# Altium schematic symbol library Diodes.SchLib: 6 symbols
Pins are listed as number, name and electrical type; pins without a type are passive.

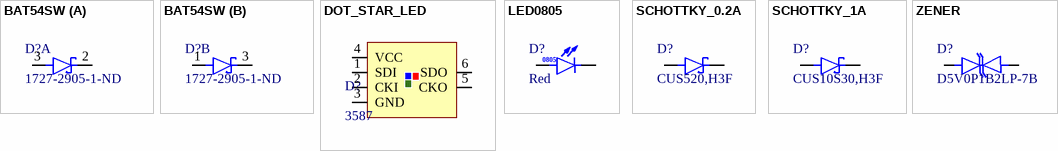
[diagram p0: symbols BAT54SW to ZENER]

## BAT54SW
designator D?, comment 1727-2905-1-ND
Rectifier Diode Schottky 0.2A 5ns Automotive 3-Pin SC-70 T/R; Manufacturer: Nexperia; Manufacturer Part Number: BAT54SW,115; Supplier 1: Digi-Key; RoHS: Yes; Category: Rectifier Diodes; Stock 1: 166801; ComponentLink1URL: http://www.farnell.com/datasheets/1679676.pdf?src-supplier=Farnell; ComponentLink1Description: http://www.farnell.com/datasheets/1679676.pdf?src-supplier=Farnell; ComponentLink2URL: https://assets.nexperia.com/documents/data-sheet/BAT54W_SER.pdf?src-supplier=Digi-Key; ComponentLink2Description: https://assets.nexperia.com/documents/data-sheet/BAT54W_SER.pdf?src-supplier=Digi-Key; Supplier Part Number 1: 1727-2905-1-ND; Pricing 1: 1=0.23000, 10=0.20900, 100=0.11400, 500=0.07018, 1000=0.04785 (USD)
footprint SOT323
part A pins: 2, 3
part B pins: 1, 3

## DOT_STAR_LED
designator D?, comment 3587
DotStar Micro LEDs (APA102–2020)- Smart SMD RGB LED - 100 pack; Manufacturer: Adafruit Industries; Color: Blue,Green,Red; Interface: Serial; Number of LEDs: 100; Supplier 1: Digi-Key; Manufacturer Part Number: 3587; RoHS: No; Stock 1: 113; Mount: Surface Mount; Length: 2mm; Width: 2mm; ComponentLink1URL: https://media.digikey.com/pdf/Data%20Sheets/Adafruit%20PDFs/3587_Web.pdf?src-supplier=Digi-Key; ComponentLink1Description: https://media.digikey.com/pdf/Data%20Sheets/Adafruit%20PDFs/3587_Web.pdf?src-supplier=Digi-Key; Supplier Part Number 1: 1528-2392-ND; Pricing 1: 1=29.95000 (USD)
footprint APA102-2020
pins: 1 SDI, 2 CKI, 3 GND, 4 VCC, 5 CKO, 6 SDO

## LED0805
designator D?, comment Red
SMD LED red 2.4 V 0805, 150080RS75000, Würth Elektronik; Manufacturer: Wurth Electronics; Luminous Intensity: 150mcd; Viewing Angle: 140°; Forward Voltage: 2V; Wavelength: 625nm; Lens Style: Clear,Rectangular; Forward Current: 30mA; Test Current: 20mA; Supplier 1: Digi-Key; Manufacturer Part Number: 150080RS75000; RoHS: Yes; Category: LEDs; Stock 1: 53458; Mount: Surface Mount; Case/Package: 0805; Color: Red; Case Code (Metric): 2012; Case Code (Imperial): 0805; Min Operating Temperature: -40°C; Max Operating Temperature: 85°C; Package Quantity: 4000; Packaging: Tape and Reel; Dominant Wavelength: 625nm; Length: 2mm; Width: 1.25mm; Height: 0.7mm; REACH SVHC: Unknown; RoHS Compliant: Yes; ComponentLink1URL: https://datasheet.ciiva.com/22656/150080rs75000-22656961.pdf?src-supplier=Element14; ComponentLink1Description: https://datasheet.ciiva.com/22656/150080rs75000-22656961.pdf?src-supplier=Element14; ComponentLink2URL: https://datasheet.ciiva.com/29279/759435-da-01-en-chipled-0805-w-kl-rot-150080rs75000-29279032.pdf?src-supplier=Conrad; ComponentLink2Description: https://datasheet.ciiva.com/29279/759435-da-01-en-chipled-0805-w-kl-rot-150080rs75000-29279032.pdf?src-supplier=Conrad; Supplier Part Number 1: 732-4984-6-ND; Pricing 1: 1=0.18000, 50=0.16500, 100=0.14200, 500=0.12300 (USD)
footprint LED0805
pins: 1 C, 2 A

## SCHOTTKY_0.2A
designator D?, comment CUS520,H3F
Diode Small Signal Schottky Si 0.2A 2-Pin USC T/R; Manufacturer: Toshiba; Average Rectified Current: 200mA; Max Repetitive Reverse Voltage (Vrrm): 30V; Element Configuration: Single; Max Reverse Current: 5uA; Peak Non-Repetitive Surge Current: 1A; Supplier 1: Digi-Key; Manufacturer Part Number: CUS520,H3F; RoHS: No; Category: Rectifier Diodes; Stock 1: 16652; Mount: Surface Mount; Number of Pins: 2; Contact Plating: Tin,Silver; Min Operating Temperature: -40°C; Max Operating Temperature: 100°C; Packaging: Tape and Reel; Max Reverse Voltage (DC): 30V; RoHS Compliant: No; ComponentLink1URL: https://toshiba.semicon-storage.com/info/docget.jsp?did=7041&prodName=CUS520&src-supplier=Digi-Key; ComponentLink1Description: https://toshiba.semicon-storage.com/info/docget.jsp?did=7041&prodName=CUS520&src-supplier=Digi-Key; ComponentLink2URL: http://toshiba.semicon-storage.com/info/docget.jsp?did=7041&prodName=CUS520&src-supplier=Avnet; ComponentLink2Description: http://toshiba.semicon-storage.com/info/docget.jsp?did=7041&prodName=CUS520&src-supplier=Avnet; ComponentLink3URL: http://toshiba.semicon-storage.com/info/lookup.jsp?pid=CUS520&amp;lang=en&src-supplier=Mouser; ComponentLink3Description: http://toshiba.semicon-storage.com/info/lookup.jsp?pid=CUS520&amp;lang=en&src-supplier=Mouser; Supplier Part Number 1: CUS520H3FCT-ND; Pricing 1: 1=0.22000, 10=0.17700, 100=0.09400, 500=0.06188, 1000=0.04208 (USD)
footprint FP-USC-MFG
pins: 1 C, 2 A

## SCHOTTKY_1A
designator D?, comment CUS10S30,H3F
DIODE SCHOTTKY 30V 1A USC; Manufacturer: Toshiba; Max Reverse Current: 500uA; Peak Non-Repetitive Surge Current: 5A; Element Configuration: Single; Supplier 1: Digi-Key; Manufacturer Part Number: CUS10S30,H3F; RoHS: No; Category: Rectifier Diodes; Stock 1: 85731; Mount: Surface Mount; Case/Package: SOD; Number of Pins: 2; Contact Plating: Tin,Silver; Min Operating Temperature: -55°C; Max Operating Temperature: 125°C; Packaging: Cut Tape; Average Rectified Current: 1A; Max Reverse Voltage (DC): 30V; RoHS Compliant: No; ComponentLink1URL: http://toshiba.semicon-storage.com/info/docget.jsp?did=14077&prodName=CUS10S30&src-supplier=Avnet; ComponentLink1Description: http://toshiba.semicon-storage.com/info/docget.jsp?did=14077&prodName=CUS10S30&src-supplier=Avnet; ComponentLink2URL: http://toshiba.semicon-storage.com/info/lookup.jsp?pid=CUS10S30&amp;lang=en&src-supplier=Mouser; ComponentLink2Description: http://toshiba.semicon-storage.com/info/lookup.jsp?pid=CUS10S30&amp;lang=en&src-supplier=Mouser; ComponentLink3URL: https://toshiba.semicon-storage.com/info/docget.jsp?did=14077&prodName=CUS10S30&src-supplier=Digi-Key; ComponentLink3Description: https://toshiba.semicon-storage.com/info/docget.jsp?did=14077&prodName=CUS10S30&src-supplier=Digi-Key; Supplier Part Number 1: CUS10S30H3FCT-ND; Pricing 1: 1=0.38000, 10=0.28200, 100=0.15950, 500=0.10560, 1000=0.08096 (USD)
footprint FP-USC-MFG
pins: 1 C, 2 A

## ZENER
designator D?, comment D5V0P1B2LP-7B
TVS DIODE 5.5V 13V DFN1006-2; Manufacturer: Diodes; Number of Bidirectional Channels: 1; Min Breakdown Voltage: 6V; Power Line Protection: No; Polarity: Bidirectional; Breakdown Voltage: 7V; Max Surge Current: 4A; Max Power Dissipation: 250mW; Element Configuration: Single; ESD Protection: Yes; Max Reverse Leakage Current: 100nA; Supplier 1: Digi-Key; Manufacturer Part Number: D5V0P1B2LP-7B; RoHS: Yes; Category: TVS Diodes; Stock 1: 24260; Mount: Surface Mount; Case/Package: DFN; Number of Pins: 2; Contact Plating: Gold; Min Operating Temperature: -65°C; Max Operating Temperature: 150°C; Packaging: Tape and Reel; Reverse Standoff Voltage: 5.5V; Clamping Voltage: 13V; Termination: SMD/SMT; Working Voltage: 5.5V; Package Quantity: 10000; Direction: Bidirectional; Peak Pulse Current: 4A; Peak Pulse Power: 250mW; Resistor Type: Zener; RoHS Compliant: Yes; ComponentLink1URL: http://www.mouser.com/ds/2/115/D5V0P1B2LP-368667.pdf?src-supplier=Mouser; ComponentLink1Description: http://www.mouser.com/ds/2/115/D5V0P1B2LP-368667.pdf?src-supplier=Mouser; ComponentLink2URL: http://www.diodes.com/_files/datasheets/D5V0P1B2LP.pdf?src-supplier=Avnet; ComponentLink2Description: http://www.diodes.com/_files/datasheets/D5V0P1B2LP.pdf?src-supplier=Avnet; ComponentLink3URL: https://www.diodes.com/assets/Datasheets/D5V0P1B2LP.pdf?src-supplier=Digi-Key; ComponentLink3Description: https://www.diodes.com/assets/Datasheets/D5V0P1B2LP.pdf?src-supplier=Digi-Key; Supplier Part Number 1: D5V0P1B2LP-7BDICT-ND; Pricing 1: 1=0.28000, 10=0.22700, 100=0.12040, 500=0.07920, 1000=0.05386, 2000=0.04858, 5000=0.04224 (USD)
footprint D5V0P1B2LP
pins: 1, 2